# Altium footprint library PLS1-8R.PcbLib: 1 footprints
Each footprint in its own frame and in the unit in brackets; x right, y up, seen from the top. Pads: shape width x height; smd on the part's side, far side on the other; paste and mask are expansions set on the pad; w line width, h text height; cw(c..) or ccw(c..) is an arc to the next point about the centre after c.
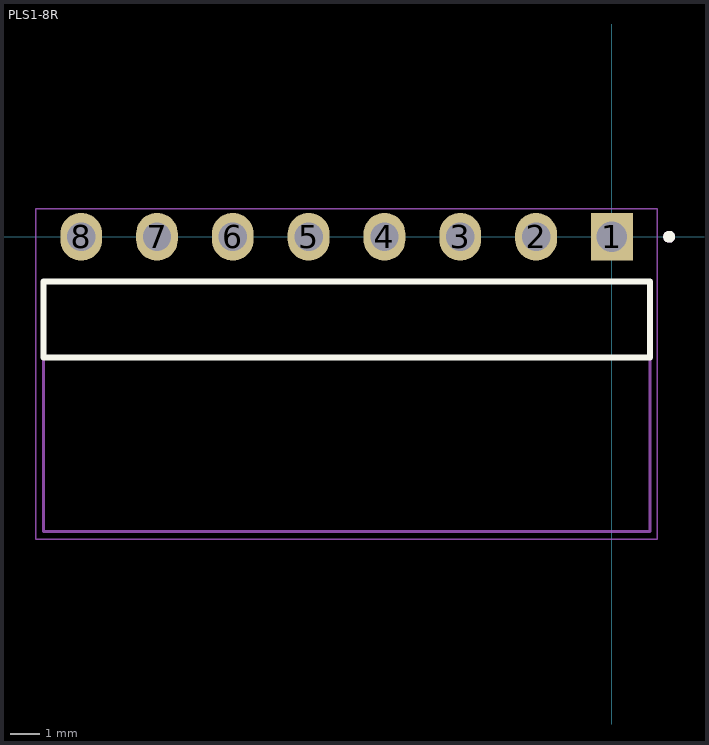
[diagram p0: the footprint, top view; thin cyan lines are the x and y axes]

## PLS1-8R [mm]
pads (8):
  rect 1.4x1.6 hole 1.02: 1(0,0)
  oval 1.4x1.6 hole 0.95: 2(-2.54,0) 3(-5.08,0) 4(-7.62,0) 5(-10.16,0) 6(-12.7,0) 7(-15.24,0) 8(-17.78,0)
Top Overlay:
  circle w0.2: c1.92,0 r0.1
  lines w0.2: -19.05,-4.04 -19.05,-1.5 1.27,-1.5 1.27,-4.04 -19.05,-4.04
Mechanical 13:
  circle w0.2: c1.92,0 r0.1
  lines w0.1: -19.05,-4.04 -19.05,-1.5 1.27,-1.5 1.27,-4.04 ; -19.05,-4.04 1.27,-4.04 ; -19.05,-4.04 -19.05,-9.88 1.27,-9.88 1.27,-4.04
Mechanical 15:
  lines w0.05: -19.3,-10.13 -19.3,0.935 1.52,0.935 1.52,-10.13 -19.3,-10.13
3D body "TSW-108-22-T-S-RA.stp": height 2.54, standoff -5.31, extent -19.05,-9.906 1.27,0.318